# Altium footprint library DMP1200UFR47.PcbLib: 1 footprints
Each footprint in its own frame and in the unit in brackets; x right, y up, seen from the top. Pads: shape width x height; smd on the part's side, far side on the other; paste and mask are expansions set on the pad; w line width, h text height; cw(c..) or ccw(c..) is an arc to the next point about the centre after c.
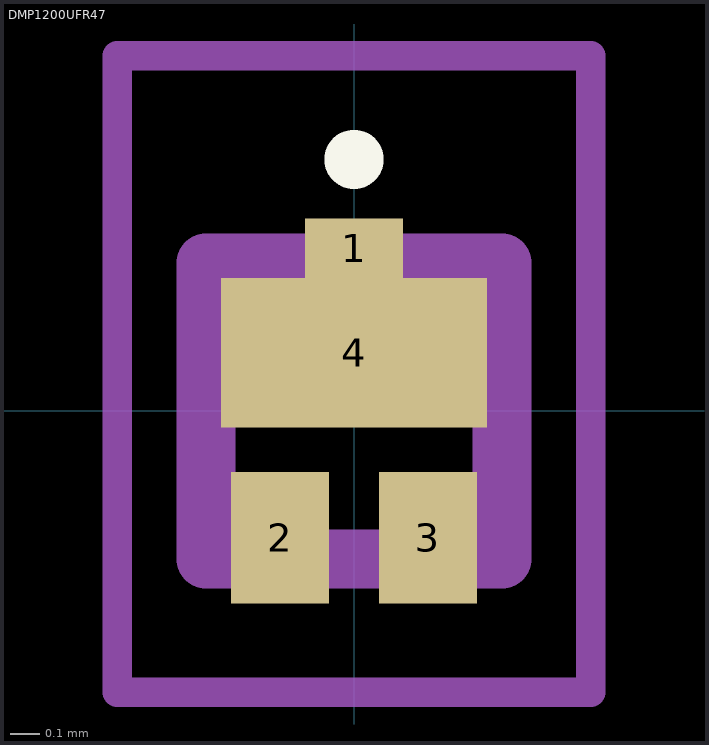
[diagram p0: the footprint, top view; thin cyan lines are the x and y axes]

## DMP1200UFR47 [mm]
pads (4):
  rect 0.33x0.2 smd: 1(0,0.55)
  rect 0.33x0.445 smd: 2(-0.25,-0.428) 3(0.25,-0.428)
  rect 0.9x0.505 smd: 4(0,0.197)
L26-Silk Screen Top (Multiple PADS layers...):
  lines w0.1: -0.05,0.85 -0.05,0.85 ; -0.05,0.85 cw(c0,0.85) 0.05,0.85 ; -0.05,0.85 ccw(c0,0.85) 0.05,0.85 ; 0.05,0.85 0.05,0.85
L15 (Multiple PADS layers...):
  lines w0.2: -0.5,-0.5 0.5,-0.5 0.5,0.5 -0.5,0.5 -0.5,-0.5
L20:
  lines w0.1: -0.8,-0.95 0.8,-0.95 0.8,1.2 -0.8,1.2 -0.8,-0.95